# EAGLE library part ADG5209 (library analog_2020)
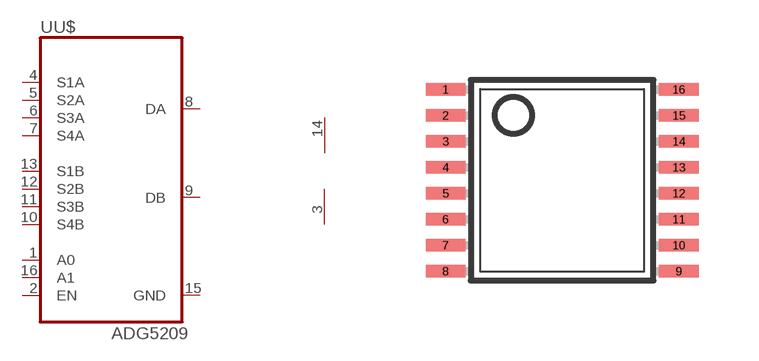
[diagram p5: symbol with the pads of TSSOP_16; footprint TSSOP_16]

Designator prefix U; gates U$=ADG5209 G$2=POWER_DUAL

## ADG5209  [TSSOP_16]
1  U$:A0  in
2  U$:EN  in
3  G$2:VSS  pwr
4  U$:S1A  in
5  U$:S2A  in
6  U$:S3A  in
7  U$:S4A  in
8  U$:DA  out
9  U$:DB  out
10  U$:S4B  in
11  U$:S3B  in
12  U$:S2B  in
13  U$:S1B  in
14  G$2:VDD  pwr
15  U$:GND  pwr
16  U$:A1  in

## Footprint TSSOP_16 (pad centres in mm)
smd 0.991 x 0.305: 1 -2.918,2.275; 2 -2.918,1.625; 3 -2.918,0.975; 4 -2.918,0.325; 5 -2.918,-0.325; 6 -2.918,-0.975; 7 -2.918,-1.625; 8 -2.918,-2.275; 9 2.918,-2.275; 10 2.918,-1.625; 11 2.918,-0.975; 12 2.918,-0.325; 13 2.918,0.325; 14 2.918,0.975; 15 2.918,1.625; 16 2.918,2.275